# Altium footprint library PcbLib1.PcbLib: 21 footprints (part 1 of 2)
Each footprint in its own frame and in the unit in brackets; x right, y up, seen from the top. Pads: shape width x height; smd on the part's side, far side on the other; paste and mask are expansions set on the pad; w line width, h text height; cw(c..) or ccw(c..) is an arc to the next point about the centre after c.
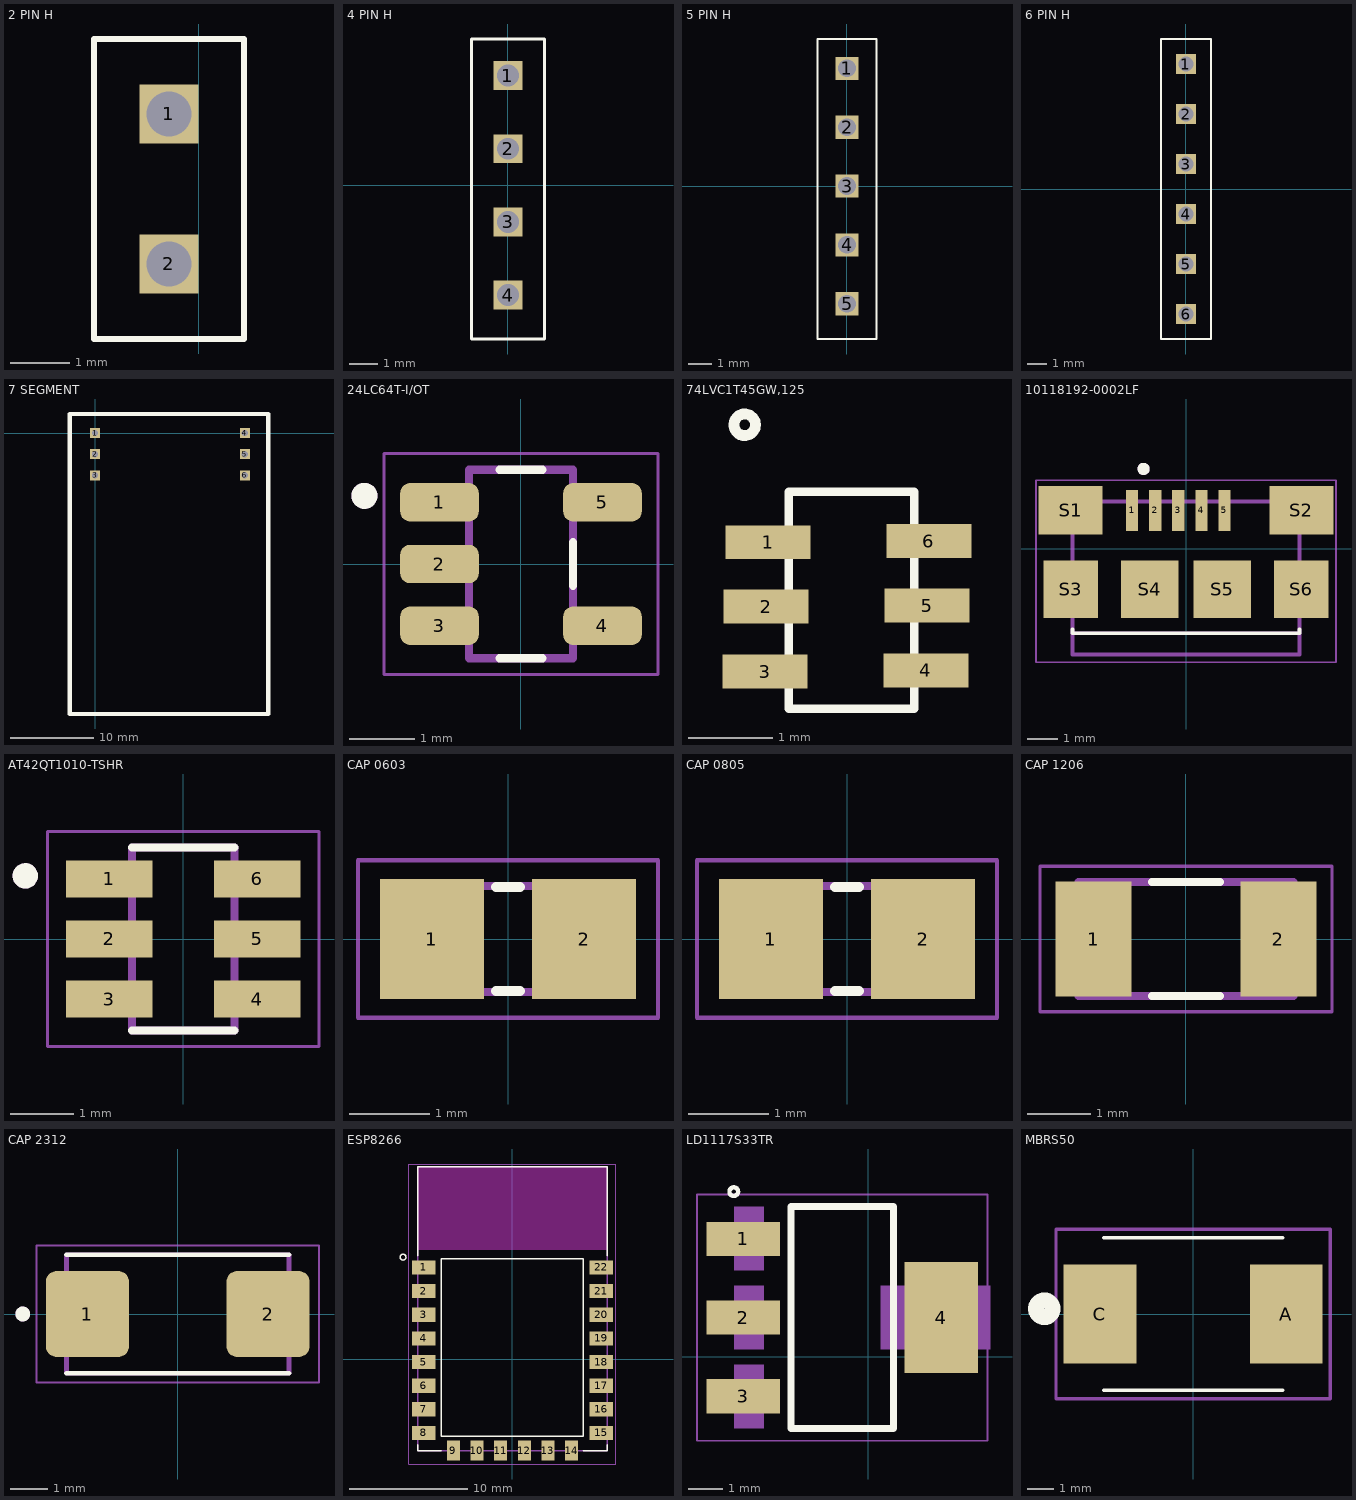
[diagram p0: the footprints below, top view; thin cyan lines are the x and y axes]

## 2 PIN H [mil]
pads (2):
  rect 39.37x39.37 hole 30: 1(-20.06,360) 2(-20,260)
Top Overlay:
  lines w3.94: -70,210 -70,410 30,410 30,210 -70,210

## 4 PIN H [mm]
pads (4):
  rect 1x1 hole 0.762: 1(-0.001,3.81) 2(0.001,1.27) 3(0.001,-1.27) 4(0.001,-3.81)
Top Overlay:
  lines w0.1: -1.269,-5.334 -1.269,5.08 1.271,5.08 1.271,-5.334 -1.269,-5.334

## 5 PIN H [mm]
pads (5):
  rect 1x1 hole 0.762: 1(-0.001,5.08) 2(0.001,2.54) 3(0.001,0) 4(0.001,-2.54) 5(0.001,-5.08)
Top Overlay:
  lines w0.1: -1.269,-6.604 -1.269,6.35 1.271,6.35 1.271,-6.604 -1.269,-6.604

## 6 PIN H [mm]
pads (6):
  rect 1x1 hole 0.762: 1(-0.001,6.35) 2(0.001,3.81) 3(0.001,1.27) 4(0.001,-1.27) 5(0.001,-3.81) 6(0.001,-6.35)
Top Overlay:
  lines w0.1: -1.269,-7.62 -1.269,7.62 1.271,7.62 1.271,-7.62 -1.269,-7.62

## 7 SEGMENT [mm]
pads (6):
  rect 1.2x1.2 hole 0.762: 1(0,0) 2(0,-2.54) 3(0,-5.08) 4(18,0) 5(18,-2.54) 6(18,-5.08)
Top Overlay:
  lines w0.5: -3.048,-33.782 -3.048,2.286 20.828,2.286 20.828,-33.782 -3.048,-33.782

## 24LC64T-I/OT [mm]
pads (5):
  rrect50% 1.21x0.59 smd: 1(-1.255,0.95) 2(-1.255,0) 3(-1.255,-0.95) 4(1.255,-0.95) 5(1.255,0.95)
Top Overlay:
  circle w0.2: c-2.41,1.05 r0.1
  lines w0.127: -0.33,-1.45 0.33,-1.45 ; -0.33,1.45 0.33,1.45 ; 0.8,-0.335 0.8,0.335
Mechanical 13:
  circle w0.2: c-2.41,1.05 r0.1
  lines w0.127: -0.8,-1.45 -0.8,1.45 0.8,1.45 0.8,-1.45 -0.8,-1.45
Mechanical 15:
  lines w0.05: -2.11,-1.7 2.11,-1.7 2.11,1.7 -2.11,1.7 -2.11,-1.7

## 74LVC1T45GW,125 [mm]
pads (6):
  rect 1x0.4 smd: 1(-2.9,2.3) 2(-2.922,1.542) 3(-2.934,0.777) 4(-1.041,0.79) 5(-1.028,1.555) 6(-1.006,2.313)
Top Overlay:
  circle w0.127: c-3.175,3.683 r0.127
  lines w0.1: -2.658,0.339 -2.658,2.897 -1.179,2.897 -1.179,0.339 -2.658,0.339

## 10118192-0002LF [mm]
pads (11):
  rect 0.4x1.35 smd: 1(-1.778,1.27) 2(-1.016,1.27) 3(-0.254,1.27) 4(0.508,1.27) 5(1.27,1.27)
  rect 2.1x1.6 smd: S1(-3.81,1.27) S2(3.81,1.27)
  rect 1.8x1.9 smd: S3(-3.8,-1.338) S6(3.8,-1.338)
  rect 1.9x1.9 smd: S4(-1.2,-1.338) S5(1.2,-1.338)
Top Overlay:
  circle w0.2: c-1.4,2.638 r0.1
  lines w0.127: -3.75,-2.662 -3.75,-2.788 3.75,-2.788 3.75,-2.662
Mechanical 13:
  circle w0.2: c-1.4,2.638 r0.1
  lines w0.127: -3.75,-2.788 3.75,-2.788 ; -3.75,-2.788 -3.75,1.563 3.75,1.563 3.75,-2.788 ; -3.75,-2.788 -3.75,-3.487 3.75,-3.487 3.75,-2.788
Mechanical 15:
  lines w0.05: -4.95,-3.737 -4.95,2.262 4.95,2.262 4.95,-3.737 -4.95,-3.737

## AT42QT1010-TSHR [mm]
pads (6):
  rect 1.37x0.59 smd: 1(-1.17,0.95) 2(-1.17,0) 3(-1.17,-0.95) 4(1.17,-0.95) 5(1.17,0) 6(1.17,0.95)
Top Overlay:
  circle w0.2: c-2.5,1 r0.1
  lines w0.127: -0.81,-1.45 0.81,-1.45 ; -0.81,1.45 0.81,1.45
Mechanical 13:
  circle w0.2: c-2.5,1 r0.1
  lines w0.127: -0.813,-1.45 0.813,-1.45 0.813,1.45 -0.813,1.45 -0.813,-1.45
Mechanical 15:
  lines w0.05: -2.15,-1.7 2.15,-1.7 2.15,1.7 -2.15,1.7 -2.15,-1.7

## CAP 0603 [mm]
pads (2):
  rect 1.3x1.5 smd: 1(-0.95,0) 2(0.95,0)
Top Overlay:
  lines w0.127: -0.15,-0.65 0.15,-0.65 ; -0.15,0.65 0.15,0.65
Mechanical 13:
  region: -0.342,-0.724 -1.092,-0.724 -1.092,0.726 -0.342,0.726
  region: 1.106,-0.724 0.356,-0.724 0.356,0.726 1.106,0.726
  lines w0.102: -0.381,0.66 0.381,0.66 ; -0.356,-0.66 0.381,-0.66
Mechanical 15:
  lines w0.051: -1.873,-0.983 1.873,-0.983 1.873,0.983 -1.873,0.983 -1.873,-0.983

## CAP 0805 [mm]
pads (2):
  rect 1.3x1.5 smd: 1(-0.95,0) 2(0.95,0)
Top Overlay:
  lines w0.127: -0.15,-0.65 0.15,-0.65 ; -0.15,0.65 0.15,0.65
Mechanical 13:
  region: -0.342,-0.724 -1.092,-0.724 -1.092,0.726 -0.342,0.726
  region: 1.106,-0.724 0.356,-0.724 0.356,0.726 1.106,0.726
  lines w0.102: -0.381,0.66 0.381,0.66 ; -0.356,-0.66 0.381,-0.66
Mechanical 15:
  lines w0.051: -1.873,-0.983 1.873,-0.983 1.873,0.983 -1.873,0.983 -1.873,-0.983

## CAP 1206 [mm]
pads (2):
  rect 1.2x1.82 smd: 1(-1.46,0) 2(1.46,0)
Top Overlay:
  lines w0.127: -0.54,-0.9 0.54,-0.9 ; -0.54,0.9 0.54,0.9
Mechanical 13:
  lines w0.127: -1.7,-0.9 1.7,-0.9 1.7,0.9 -1.7,0.9 -1.7,-0.9
Mechanical 15:
  lines w0.05: -2.308,-1.15 2.308,-1.15 2.308,1.15 -2.308,1.15 -2.308,-1.15

## CAP 2312 [mm]
pads (2):
  rrect25% 2.24x2.32 smd: 1(-2.435,0) 2(2.435,0)
Top Overlay:
  circle w0.2: c-4.18,0 r0.1
  lines w0.127: -3,-1.6 3,-1.6 ; -3,1.6 3,1.6
Mechanical 13:
  circle w0.2: c-4.18,0 r0.1
  lines w0.127: -3,-1.6 3,-1.6 3,1.6 -3,1.6 -3,-1.6
Mechanical 15:
  lines w0.05: -3.81,-1.85 3.81,-1.85 3.81,1.85 -3.805,1.85 -3.81,-1.85

## ESP8266 [mm]
pads (22):
  rect 2x1.2 smd: 1(-7.5,7.75) 2(-7.5,5.75) 3(-7.5,3.75) 4(-7.5,1.75) 5(-7.5,-0.25) 6(-7.5,-2.25) 7(-7.5,-4.25) 8(-7.5,-6.25) 15(7.5,-6.25) 16(7.5,-4.25) 17(7.5,-2.25) 18(7.5,-0.25) 19(7.5,1.75) 20(7.5,3.75) 21(7.5,5.75) 22(7.5,7.75)
  rect 1.1x1.7 smd: 9(-5,-7.75) 10(-3,-7.75) 11(-1,-7.75) 12(1,-7.75) 13(3,-7.75) 14(5,-7.75)
Top Overlay:
  circle w0.127: c-9.25,8.625 r0.25
  lines w0.127: -8,-7.25 -8,-7.75 -6,-7.75 ; -8,8.75 -8,16.25 8,16.25 8,8.75 ; 6,-7.75 8,-7.75 8,-7.25 ; -6,-6.51 -6,8.49 6,8.49 6,-6.51 -6,-6.51
Keep-Out Layer:
  region: 8,9.26 -8.009,9.26 -8.009,16.25 8,16.25
  region: 8,9.26 -8.009,9.26 -8.009,16.25 8,16.25
Mechanical 13:
  lines w0.127: -8,-7.75 -8,16.25 8,16.25 8,-7.75 -8,-7.75
Mechanical 15:
  lines w0.05: -8.75,-8.875 -8.75,16.5 8.75,16.5 8.75,-8.875 -8.75,-8.875

## LD1117S33TR [mm]
pads (4):
  rect 2.15x1 smd: 1(-3.662,3.443) 2(-3.662,1.143) 3(-3.662,-1.157)
  rect 2.15x3.25 smd: 4(2.138,1.143)
Top Overlay:
  circle w0.127: c-3.937,4.826 r0.127
  lines w0.203: -2.262,-2.107 -2.262,4.393 0.738,4.393 0.738,-2.107 -2.262,-2.107
Mechanical 13:
  region: -3.061,-2.096 -3.925,-2.096 -3.925,-0.241 -3.061,-0.241
  region: -3.061,2.528 -3.927,2.528 -3.927,4.381 -3.061,4.381
  region: -3.061,0.214 -3.929,0.214 -3.929,2.07 -3.061,2.07
  region: 3.569,0.215 0.37,0.215 0.37,2.07 3.569,2.07
  region: -3.061,-2.098 -3.927,-2.098 -3.927,-0.241 -3.061,-0.241
  region: -3.061,2.529 -3.929,2.529 -3.929,4.381 -3.061,4.381
  region: -3.061,0.215 -3.927,0.215 -3.927,2.07 -3.061,2.07
  region: 3.569,0.214 0.37,0.214 0.37,2.07 3.569,2.07
Mechanical 15:
  lines w0.05: -5.012,-2.457 -5.012,4.743 3.488,4.743 3.488,-2.457 -5.012,-2.457

## MBRS50 [mil]
pads (2):
  rect 110x150 smd: A(140.49,0) C(-140.49,0)
Top Overlay:
  circle w24: c-224.41,7.87 r12.45
  lines w5: -135.04,-114.96 135.04,-114.96 ; -135.04,114.96 135.04,114.96
Mechanical 15:
  lines w5: -206.69,-127.95 206.69,-127.95 206.69,127.95 -206.69,127.95 -206.69,-127.95